# EAGLE library part MEGA8L-DEV (library LIB-ATMEGA8)
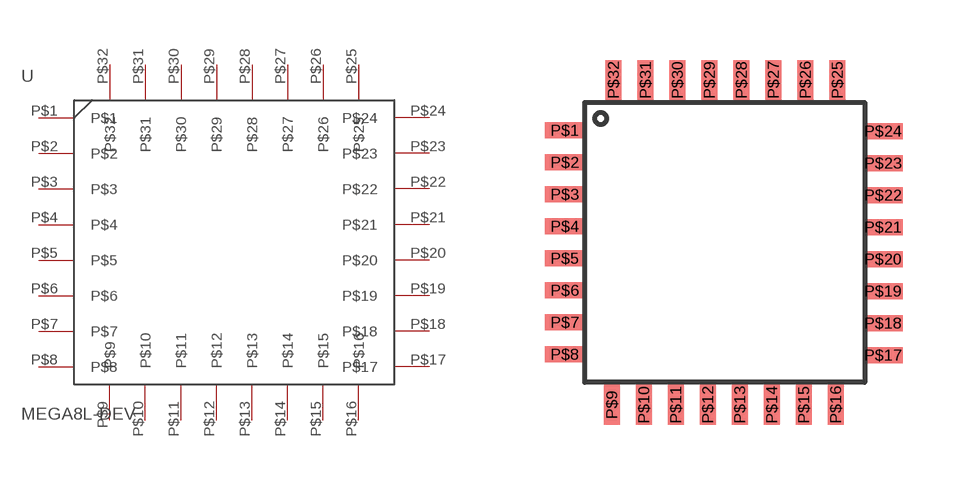
[diagram p0: symbol with the pads of TQFP-MEGA8L; footprint TQFP-MEGA8L]

Designator prefix -

## MEGA8L-DEV  [TQFP-MEGA8L]
P$1  P$1
P$2  P$2
P$3  P$3
P$4  P$4
P$5  P$5
P$6  P$6
P$7  P$7
P$8  P$8
P$9  P$9
P$10  P$10
P$11  P$11
P$12  P$12
P$13  P$13
P$14  P$14
P$15  P$15
P$16  P$16
P$17  P$17
P$18  P$18
P$19  P$19
P$20  P$20
P$21  P$21
P$22  P$22
P$23  P$23
P$24  P$24
P$25  P$25
P$26  P$26
P$27  P$27
P$28  P$28
P$29  P$29
P$30  P$30
P$31  P$31
P$32  P$32

## Footprint TQFP-MEGA8L (pad centres in mm)
smd 1 x 0.4: P$1 -0.5,6.3; P$2 -0.5,5.5; P$3 -0.5,4.7; P$4 -0.5,3.9; P$5 -0.5,3.1; P$6 -0.5,2.3; P$7 -0.5,1.5; P$8 -0.5,0.7; P$17 7.46,0.68; P$18 7.46,1.48; P$19 7.46,2.28; P$20 7.46,3.08; P$21 7.46,3.88; P$22 7.46,4.68; P$23 7.46,5.48; P$24 7.46,6.28
smd 0.4 x 1: P$9 0.68,-0.56; P$10 1.48,-0.56; P$11 2.28,-0.56; P$12 3.08,-0.56; P$13 3.88,-0.56; P$14 4.68,-0.56; P$15 5.48,-0.56; P$16 6.28,-0.56; P$25 6.32,7.56; P$26 5.52,7.56; P$27 4.72,7.56; P$28 3.92,7.56; P$29 3.12,7.56; P$30 2.32,7.56; P$31 1.52,7.56; P$32 0.72,7.56